# Altium footprint library BACKLIGHT_44.PcbLib: 1 footprints
Each footprint in its own frame and in the unit in brackets; x right, y up, seen from the top. Pads: shape width x height; smd on the part's side, far side on the other; paste and mask are expansions set on the pad; w line width, h text height; cw(c..) or ccw(c..) is an arc to the next point about the centre after c.
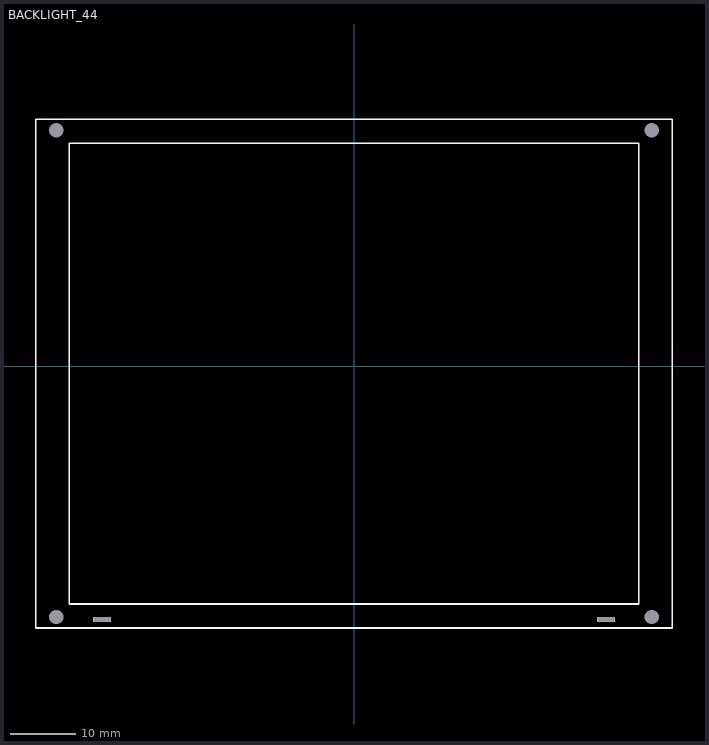
[diagram p0: the footprint, top view; thin cyan lines are the x and y axes]

## BACKLIGHT_44 [mm]
pads (6):
  rect 2.8x0.8 / inner rect 2.8x0.8 / far side rect 2.8x2.8 hole 0.75 slot 2.6 at 0 deg: 1(38.5,-38.7) 2(-38.5,-38.7)
  round 0 hole 2.15 unplated: MH(-45.5,-38.33) MH(-45.5,36.07) MH(45.5,-38.33) MH(45.5,36.07)
Top Overlay:
  lines w0.254: -48.625,-40 48.625,-40 48.625,37.73 -48.625,37.73 -48.625,-40 ; -43.5,-36.33 -43.5,34.07 43.5,34.07 43.5,-36.33 -43.5,-36.33
3D body: height 2.5, standoff -2.25, extent 37.5,-39 39.5,-38.4
3D body: height 2.5, standoff -2.25, extent -39.5,-39 -37.5,-38.4
3D body: height 2.5, standoff 0, extent 43.5,-36.33 48.625,34.075
3D body: height 2.5, standoff 0, extent -48.625,-36.33 -43.5,34.075
3D body: height 2.5, standoff 0, extent -48.625,-40 48.625,-36.325
3D body: height 2.5, standoff 0, extent -48.625,34.075 48.625,37.73
3D body: height 5.3, standoff 2.5, extent -48.625,-40 48.625,37.73